# EAGLE library part LM358 (library LM358)
OP AMP also LM158; LM258; LM2904 Source: http://cache.national.com/ds/LM/LM158.pdf Check availability <https://pricing.snapeda.com/parts/LM358/Texas%20Instruments/view-part?ref=eda>
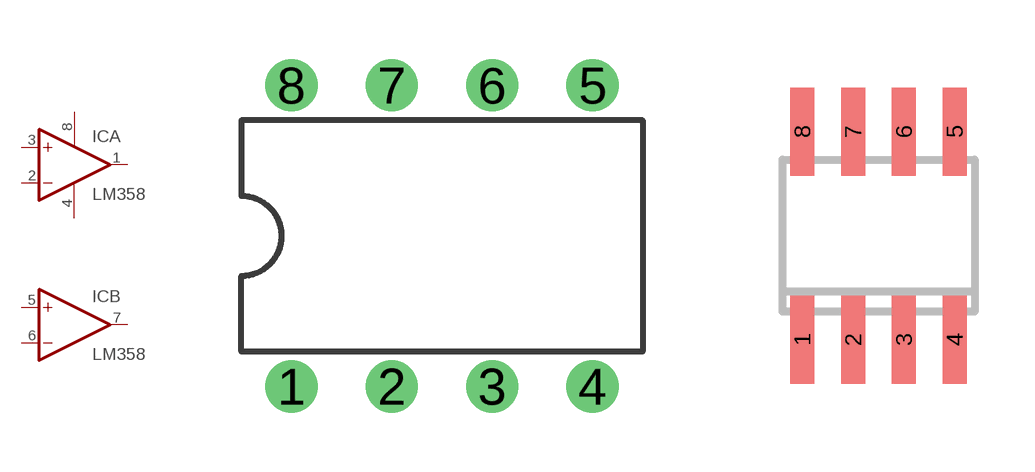
[diagram p0: symbol with the pads of DIL08; footprints DIL08, SO08]

Designator prefix IC; gates P=PWR+- A=OPAMP B=OPAMP

## LM358N (Availability: In Stock; Description: Op Amp Dual Low Power Amplifier ±16V/32V 8-Pin TO-99 Tube; MF: Texas Instruments; MP: LM358; Package: None; Price: None; Purchase-URL: https://pricing.snapeda.com/search/part/LM358/?ref=eda)  [DIL08]
1  A:OUT  out
2  A:-IN  in
3  A:+IN  in
4  P:V-  pwr
5  B:+IN  in
6  B:-IN  in
7  B:OUT  out
8  P:V+  pwr

## LM358D (Availability: In Stock; Description: Op Amp Dual Low Power Amplifier ±16V/32V 8-Pin TO-99 Tube; MF: Texas Instruments; MP: LM358; Package: None; Price: None; Purchase-URL: https://pricing.snapeda.com/search/part/LM358/?ref=eda)  [SO08]
Pads as for DIL08

## LM358MX (Availability: In Stock; Description: Op Amp Dual Low Power Amplifier ±16V/32V 8-Pin TO-99 Tube; MF: Texas Instruments; MP: LM358; Package: None; Price: None; Purchase-URL: https://pricing.snapeda.com/search/part/LM358/?ref=eda)  [SO08]
Pads as for DIL08

## Footprint DIL08 (pad centres in mm)
Dual In Line Package
drill 0.813 pad 1.27: 1 -3.81,-3.81; 2 -1.27,-3.81; 3 1.27,-3.81; 4 3.81,-3.81; 5 3.81,3.81; 6 1.27,3.81; 7 -1.27,3.81; 8 -3.81,3.81

## Footprint SO08 (pad centres in mm)
Small Outline Package 8 NS Package M08A
smd 0.6 x 2.2: 1 -1.905,-2.6; 2 -0.635,-2.6; 3 0.635,-2.6; 4 1.905,-2.6; 5 1.905,2.6; 6 0.635,2.6; 7 -0.635,2.6; 8 -1.905,2.6